# EAGLE library part TX2-LT-XX-TH (library Oles komponentbibliotek)
Panasonic TX relays, TH types, 2-coil latching
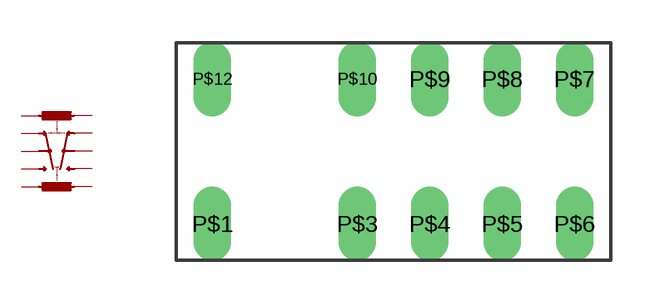
[diagram p59: symbol with the pads of TX2-LT-XX-TH; footprint TX2-LT-XX-TH]

Designator prefix -

## TX2-LT-XX-TH  [TX2-LT-XX-TH]
P$1  P$2  pas
P$3  P$7  pas
P$4  P$8  pas
P$5  P$9  pas
P$6  P$10  pas
P$7  P$6  pas
P$8  P$5  pas
P$9  P$4  pas
P$10  P$3  pas
P$12  P$1  pas

## Footprint TX2-LT-XX-TH (pad centres in mm)
Panasonic TX relays, TH types, 2-coil latching
drill 0.8 long: P$1 -6.35,-2.54; P$3 -1.27,-2.54; P$4 1.27,-2.54; P$5 3.81,-2.54; P$6 6.35,-2.54; P$7 6.35,2.54; P$8 3.81,2.54; P$9 1.27,2.54; P$10 -1.27,2.54; P$12 -6.35,2.54